# EAGLE library part 7SEG_NEW (library 7seg_KCSA56-105)
7segLED(KCSA56-105)
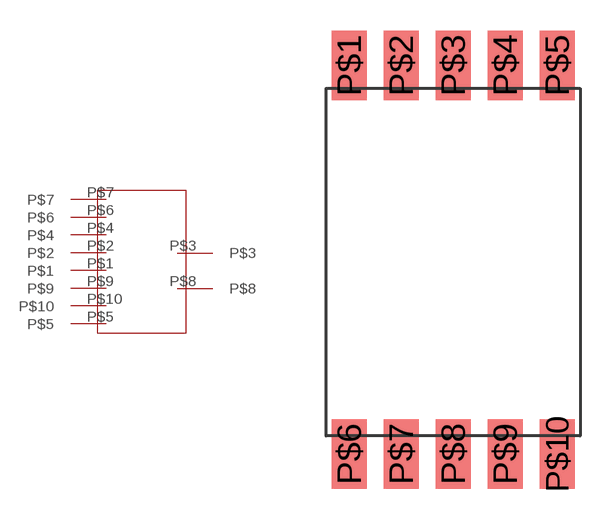
[diagram p0: symbol with the pads of 7SEG_NEW; footprint 7SEG_NEW]

Designator prefix 7SEG_NEW

## 7SEG_NEW  [7SEG_NEW]
P$1  P$1
P$2  P$2
P$3  P$3
P$4  P$4
P$5  P$5
P$6  P$6
P$7  P$7
P$8  P$8
P$9  P$9
P$10  P$10

## Footprint 7SEG_NEW (pad centres in mm)
smd 1.7 x 3.4: P$1 -5.08,10.11; P$2 -2.54,10.11; P$3 0,10.11; P$4 2.54,10.11; P$5 5.08,10.11; P$6 -5.08,-8.89; P$7 -2.54,-8.89; P$8 0,-8.89; P$9 2.54,-8.89; P$10 5.08,-8.89